# Altium schematic symbol library SCH - MCU - SI LABS - SI LABS ZGM230SA27HGN 48-PIN LGA 6.5X6.5.SchLib: 1 symbol
Pins are listed as number, name and electrical type; pins without a type are passive.

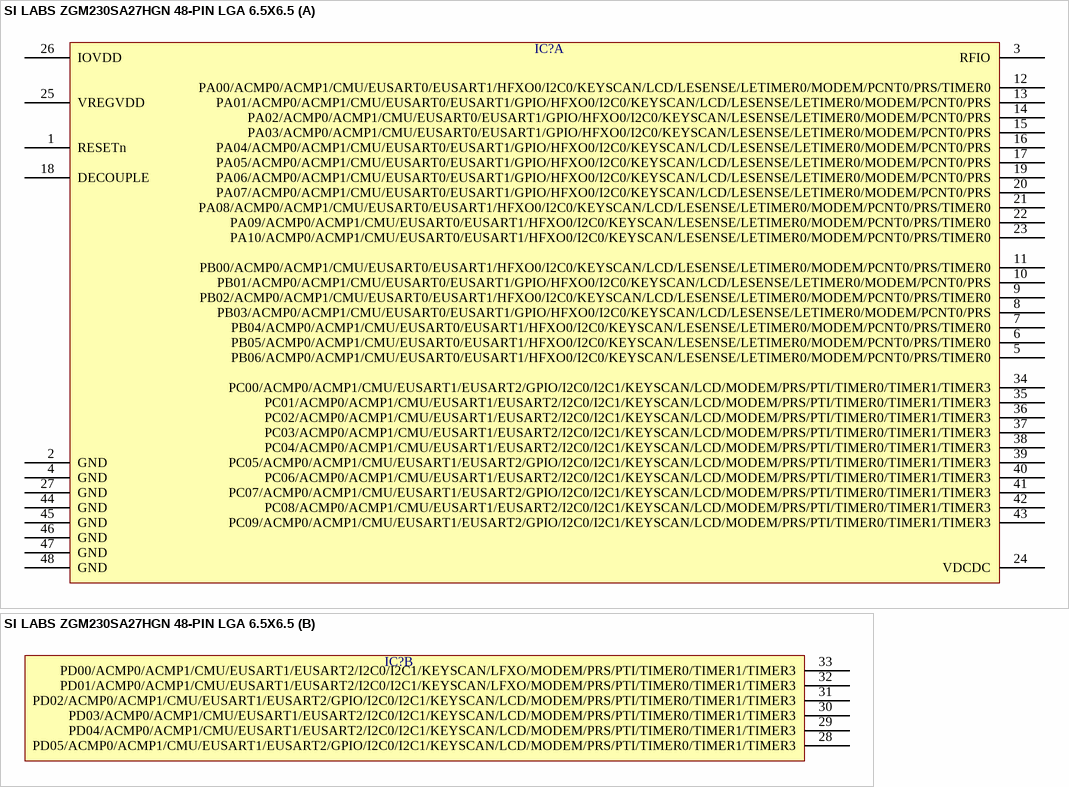
[diagram p0: symbol SI LABS ZGM230SA27HGN 48-PIN LGA 6.5X6.5]

## SI LABS ZGM230SA27HGN 48-PIN LGA 6.5X6.5
designator IC?  (value not drawn)
part A pins: 1 RESETn, 2 GND, 3 RFIO, 4 GND, 5 PB06/ACMP0/ACMP1/CMU/EUSART0/EUSART1/HFXO0/I2C0/KEYSCAN/LESENSE/LETIMER0/MODEM/PCNT0/PRS/TIMER0, 6 PB05/ACMP0/ACMP1/CMU/EUSART0/EUSART1/HFXO0/I2C0/KEYSCAN/LESENSE/LETIMER0/MODEM/PCNT0/PRS/TIMER0, 7 PB04/ACMP0/ACMP1/CMU/EUSART0/EUSART1/HFXO0/I2C0/KEYSCAN/LESENSE/LETIMER0/MODEM/PCNT0/PRS/TIMER0, 8 PB03/ACMP0/ACMP1/CMU/EUSART0/EUSART1/GPIO/HFXO0/I2C0/KEYSCAN/LCD/LESENSE/LETIMER0/MODEM/PCNT0/PRS, 9 PB02/ACMP0/ACMP1/CMU/EUSART0/EUSART1/HFXO0/I2C0/KEYSCAN/LCD/LESENSE/LETIMER0/MODEM/PCNT0/PRS/TIMER0, 10 PB01/ACMP0/ACMP1/CMU/EUSART0/EUSART1/GPIO/HFXO0/I2C0/KEYSCAN/LCD/LESENSE/LETIMER0/MODEM/PCNT0/PRS, 11 PB00/ACMP0/ACMP1/CMU/EUSART0/EUSART1/HFXO0/I2C0/KEYSCAN/LCD/LESENSE/LETIMER0/MODEM/PCNT0/PRS/TIMER0, 12 PA00/ACMP0/ACMP1/CMU/EUSART0/EUSART1/HFXO0/I2C0/KEYSCAN/LCD/LESENSE/LETIMER0/MODEM/PCNT0/PRS/TIMER0, 13 PA01/ACMP0/ACMP1/CMU/EUSART0/EUSART1/GPIO/HFXO0/I2C0/KEYSCAN/LCD/LESENSE/LETIMER0/MODEM/PCNT0/PRS, 14 PA02/ACMP0/ACMP1/CMU/EUSART0/EUSART1/GPIO/HFXO0/I2C0/KEYSCAN/LESENSE/LETIMER0/MODEM/PCNT0/PRS, 15 PA03/ACMP0/ACMP1/CMU/EUSART0/EUSART1/GPIO/HFXO0/I2C0/KEYSCAN/LESENSE/LETIMER0/MODEM/PCNT0/PRS, 16 PA04/ACMP0/ACMP1/CMU/EUSART0/EUSART1/GPIO/HFXO0/I2C0/KEYSCAN/LCD/LESENSE/LETIMER0/MODEM/PCNT0/PRS, 17 PA05/ACMP0/ACMP1/CMU/EUSART0/EUSART1/GPIO/HFXO0/I2C0/KEYSCAN/LCD/LESENSE/LETIMER0/MODEM/PCNT0/PRS, 18 DECOUPLE, 19 PA06/ACMP0/ACMP1/CMU/EUSART0/EUSART1/GPIO/HFXO0/I2C0/KEYSCAN/LCD/LESENSE/LETIMER0/MODEM/PCNT0/PRS, 20 PA07/ACMP0/ACMP1/CMU/EUSART0/EUSART1/GPIO/HFXO0/I2C0/KEYSCAN/LCD/LESENSE/LETIMER0/MODEM/PCNT0/PRS, 21 PA08/ACMP0/ACMP1/CMU/EUSART0/EUSART1/HFXO0/I2C0/KEYSCAN/LCD/LESENSE/LETIMER0/MODEM/PCNT0/PRS/TIMER0, 22 PA09/ACMP0/ACMP1/CMU/EUSART0/EUSART1/HFXO0/I2C0/KEYSCAN/LESENSE/LETIMER0/MODEM/PCNT0/PRS/TIMER0, 23 PA10/ACMP0/ACMP1/CMU/EUSART0/EUSART1/HFXO0/I2C0/KEYSCAN/LESENSE/LETIMER0/MODEM/PCNT0/PRS/TIMER0, 24 VDCDC, 25 VREGVDD, 26 IOVDD, 27 GND, 34 PC00/ACMP0/ACMP1/CMU/EUSART1/EUSART2/GPIO/I2C0/I2C1/KEYSCAN/LCD/MODEM/PRS/PTI/TIMER0/TIMER1/TIMER3, 35 PC01/ACMP0/ACMP1/CMU/EUSART1/EUSART2/I2C0/I2C1/KEYSCAN/LCD/MODEM/PRS/PTI/TIMER0/TIMER1/TIMER3, 36 PC02/ACMP0/ACMP1/CMU/EUSART1/EUSART2/I2C0/I2C1/KEYSCAN/LCD/MODEM/PRS/PTI/TIMER0/TIMER1/TIMER3, 37 PC03/ACMP0/ACMP1/CMU/EUSART1/EUSART2/I2C0/I2C1/KEYSCAN/LCD/MODEM/PRS/PTI/TIMER0/TIMER1/TIMER3, 38 PC04/ACMP0/ACMP1/CMU/EUSART1/EUSART2/I2C0/I2C1/KEYSCAN/LCD/MODEM/PRS/PTI/TIMER0/TIMER1/TIMER3, 39 PC05/ACMP0/ACMP1/CMU/EUSART1/EUSART2/GPIO/I2C0/I2C1/KEYSCAN/LCD/MODEM/PRS/PTI/TIMER0/TIMER1/TIMER3, 40 PC06/ACMP0/ACMP1/CMU/EUSART1/EUSART2/I2C0/I2C1/KEYSCAN/LCD/MODEM/PRS/PTI/TIMER0/TIMER1/TIMER3, 41 PC07/ACMP0/ACMP1/CMU/EUSART1/EUSART2/GPIO/I2C0/I2C1/KEYSCAN/LCD/MODEM/PRS/PTI/TIMER0/TIMER1/TIMER3, 42 PC08/ACMP0/ACMP1/CMU/EUSART1/EUSART2/I2C0/I2C1/KEYSCAN/LCD/MODEM/PRS/PTI/TIMER0/TIMER1/TIMER3, 43 PC09/ACMP0/ACMP1/CMU/EUSART1/EUSART2/GPIO/I2C0/I2C1/KEYSCAN/LCD/MODEM/PRS/PTI/TIMER0/TIMER1/TIMER3, 44 GND, 45 GND, 46 GND, 47 GND, 48 GND
part B pins: 28 PD05/ACMP0/ACMP1/CMU/EUSART1/EUSART2/GPIO/I2C0/I2C1/KEYSCAN/LCD/MODEM/PRS/PTI/TIMER0/TIMER1/TIMER3, 29 PD04/ACMP0/ACMP1/CMU/EUSART1/EUSART2/I2C0/I2C1/KEYSCAN/LCD/MODEM/PRS/PTI/TIMER0/TIMER1/TIMER3, 30 PD03/ACMP0/ACMP1/CMU/EUSART1/EUSART2/I2C0/I2C1/KEYSCAN/LCD/MODEM/PRS/PTI/TIMER0/TIMER1/TIMER3, 31 PD02/ACMP0/ACMP1/CMU/EUSART1/EUSART2/GPIO/I2C0/I2C1/KEYSCAN/LCD/MODEM/PRS/PTI/TIMER0/TIMER1/TIMER3, 32 PD01/ACMP0/ACMP1/CMU/EUSART1/EUSART2/I2C0/I2C1/KEYSCAN/LFXO/MODEM/PRS/PTI/TIMER0/TIMER1/TIMER3, 33 PD00/ACMP0/ACMP1/CMU/EUSART1/EUSART2/I2C0/I2C1/KEYSCAN/LFXO/MODEM/PRS/PTI/TIMER0/TIMER1/TIMER3